# Altium footprint library PcbLibForHigh_Voltage_Sensor.PcbLib: 35 footprints (part 2 of 3)
Each footprint in its own frame and in the unit in brackets; x right, y up, seen from the top. Pads: shape width x height; smd on the part's side, far side on the other; paste and mask are expansions set on the pad; w line width, h text height; cw(c..) or ccw(c..) is an arc to the next point about the centre after c.
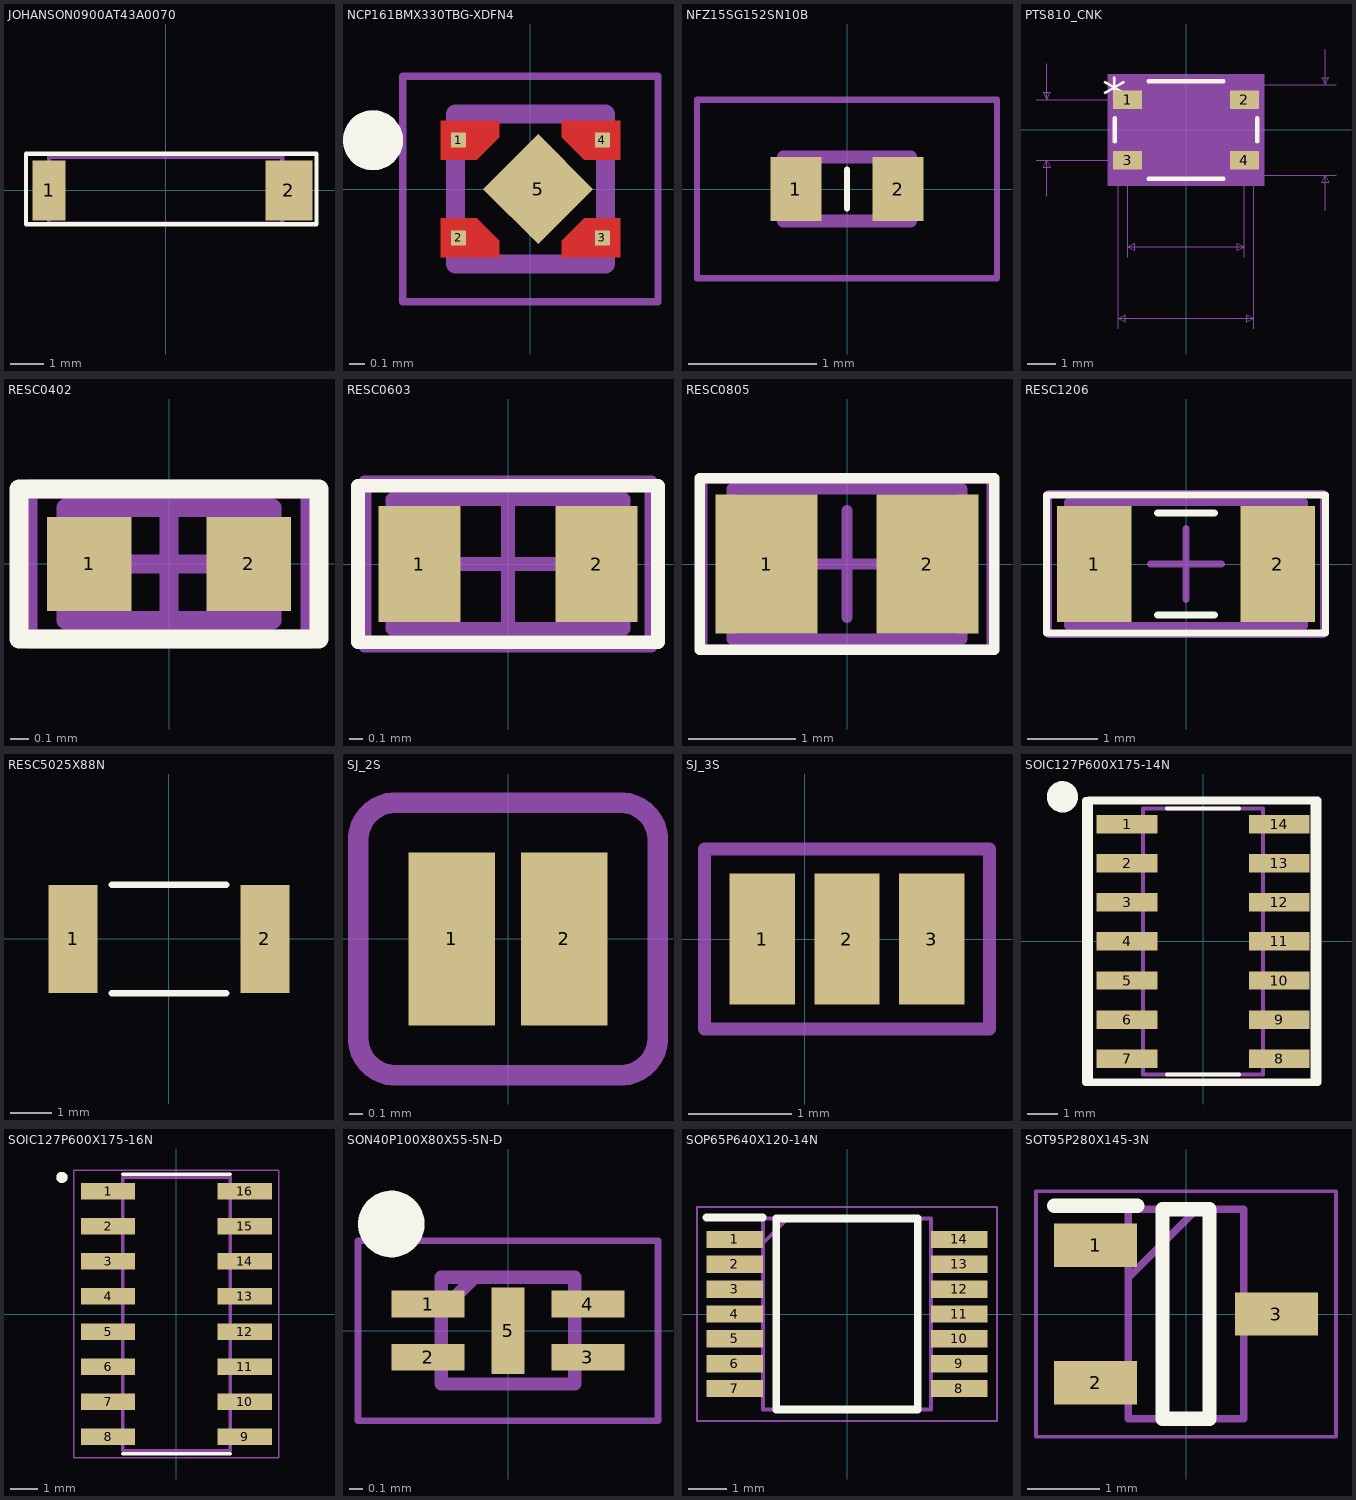
[diagram p1: the footprints below, top view; thin cyan lines are the x and y axes]

## JOHANSON0900AT43A0070 [mm]
pads (2):
  rect 1x1.8 smd: 1(-3.5,0)
  rect 1.4x1.8 smd: 2(3.7,0)
Top Overlay:
  lines w0.127: -4.191,-1.016 4.496,-1.016 4.521,-1.016 4.521,1.092 -4.039,1.092 -4.191,1.092 -4.191,-0.991 -4.191,-1.016
Mechanical 3:
  lines w0.127: -3.5,-1 -3.5,1 3.5,1 3.5,-1 -3.5,-1
3D body: height 1.27, standoff 0, extent 3,-0.9 4.4,0.9
3D body: height 1.27, standoff 0, extent -4,-0.9 -3,0.9
3D body: height 3.81, standoff 0, extent -3.569,-1.069 -3.431,1.069
3D body: height 3.81, standoff 0, extent -3.569,-1.069 3.569,-0.931
3D body: height 3.81, standoff 0, extent 3.431,-1.069 3.569,1.069
3D body: height 3.81, standoff 0, extent -3.569,0.931 3.569,1.069

## NCP161BMX330TBG-XDFN4 [mm] "Linear Voltage Requlator IC 450mA, XDFN4"
pads (5):
  rect 0.1x0.1 smd paste-1 mask+0: 1(-0.48,0.325) 2(-0.48,-0.325) 3(0.48,-0.325) 4(0.48,0.325)
  rect 0.52x0.52 smd rot 135 paste-1 mask+0: 5(0.051,0)
Top Layer:
  region: 0.6,0.195 0.36,0.195 0.21,0.345 0.21,0.455 0.6,0.455
  region: -0.21,0.345 -0.36,0.195 -0.6,0.195 -0.6,0.455 -0.21,0.455
  region: -0.21,-0.345 -0.21,-0.455 -0.6,-0.455 -0.6,-0.195 -0.36,-0.195
  region: 0.6,-0.455 0.21,-0.455 0.21,-0.345 0.36,-0.195 0.6,-0.195
Top Overlay:
  circle w0.2: c-1.05,0.325 r0.1
Top Paste:
  region: -0.21,0.345 -0.36,0.195 -0.6,0.195 -0.6,0.455 -0.21,0.455
  region: 0.6,-0.455 0.21,-0.455 0.21,-0.345 0.36,-0.195 0.6,-0.195
  region: 0.6,0.195 0.36,0.195 0.21,0.345 0.21,0.455 0.6,0.455
  region: -0.21,-0.345 -0.21,-0.455 -0.6,-0.455 -0.6,-0.195 -0.36,-0.195
  region: 0.164,-0.164 -0.164,-0.164 -0.164,0.164 0.164,0.164
Top Solder:
  region: 0.65,0.145 0.36,0.145 0.16,0.345 0.16,0.505 0.65,0.505
  region: -0.16,0.345 -0.36,0.145 -0.65,0.145 -0.65,0.505 -0.16,0.505
  region: -0.16,-0.345 -0.16,-0.505 -0.65,-0.505 -0.65,-0.145 -0.36,-0.145
  region: 0.65,-0.505 0.16,-0.505 0.16,-0.345 0.36,-0.145 0.65,-0.145
  region: 0.4,0 0,-0.4 -0.4,0 0,0.4
Mechanical 13:
  circle w0.2: c-1.05,0.325 r0.1
  lines w0.127: -0.5,-0.5 0.5,-0.5 0.5,0.5 -0.5,0.5 -0.5,-0.5
Mechanical 15:
  lines w0.05: -0.85,-0.75 -0.85,0.75 0.85,0.75 0.85,-0.75 -0.85,-0.75
3D body "NCP161BMX330TBG.STEP": height 0.38, standoff -0.05, extent -0.5,-0.5 0.5,0.5

## NFZ15SG152SN10B [mm]
pads (2):
  rect 0.4x0.5 smd: 1(-0.4,0) 2(0.4,0)
Top Overlay:
  lines w0.05: 0,-0.15 0,0.15
Mechanical 13:
  lines w0.1: -0.5,-0.25 -0.5,0.25 0.5,0.25 0.5,-0.25 -0.5,-0.25
Mechanical 15:
  lines w0.05: -1.175,-0.7 -1.175,0.7 1.175,0.7 1.175,-0.7 -1.175,-0.7
3D body "BLM15HB121SN1D.stp": height 0.65, standoff 0, extent -0.56,-0.25 0.56,0.25

## PTS810_CNK [mm]
pads (4):
  rect 1.041x0.66 smd paste+0 mask+0: 1(-2.075,1.075) 2(2.075,1.075) 3(-2.075,-1.075) 4(2.075,-1.075)
Top Overlay:
  lines w0.152: -2.527,-0.412 -2.527,0.412 ; -1.327,-1.727 1.327,-1.727 ; -1.327,1.727 1.327,1.727 ; 2.527,-0.412 2.527,0.412
  text "*" at -2.972,0.584 h1.27
Mechanical 5:
  region: -2.781,1.981 2.781,1.981 2.781,-1.981 -2.781,-1.981
Mechanical 7:
  lines w0.025: -5.321,-1.075 -2.075,-1.075 -2.075,-4.521 ; -5.321,1.075 -2.075,1.075 ; -4.94,-2.345 -4.94,-1.075 ; -4.94,2.345 -4.94,1.075 ; -2.4,-7.061 -2.4,-1.6 ; 2.075,-4.521 2.075,-1.075 ; 2.4,-7.061 2.4,-1.6 5.321,-1.6 ; 2.4,1.6 5.321,1.6 ; 4.94,-2.87 4.94,-1.6 ; 4.94,2.87 4.94,1.6 ; -4.94,-1.075 -5.067,-1.329 -4.813,-1.329 -4.94,-1.075 ; -4.94,1.075 -5.067,1.329 -4.813,1.329 -4.94,1.075 ; -2.4,-6.68 2.4,-6.68 ; -2.4,-6.68 -2.146,-6.553 -2.146,-6.807 -2.4,-6.68 ; -2.075,-4.14 2.075,-4.14 ; -2.075,-4.14 -1.821,-4.013 -1.821,-4.267 -2.075,-4.14 ; 2.075,-4.14 1.821,-4.013 1.821,-4.267 2.075,-4.14 ; 2.4,-6.68 2.146,-6.553 2.146,-6.807 2.4,-6.68 ; 4.94,-1.6 4.813,-1.854 5.067,-1.854 4.94,-1.6 ; 4.94,1.6 4.813,1.854 5.067,1.854 4.94,1.6
  text "Mounting Padstyle: RX41Y26D0T" at -9.207,-10.49 h1.27
  text "Alt 1 Padstyle: OX60Y90D30P" at -8.572,-12.395 h1.27
  text "Alt 2 Padstyle: OX90Y60D30P" at -8.572,-14.3 h1.27
  text "0.085in/2.15mm" at -9.893,-0.318 h0.64
  text "0.163in/4.15mm" at -2.222,-5.283 h0.64
  text "0.126in/3.2mm" at 5.448,1.283 h0.64
  text "0.189in/4.801mm" at -2.381,-7.823 h0.64
Mechanical 13:
  lines w0.025: -2.4,-0.8 -2.4,0.8 -1.2,1.6 1.2,1.6 2.4,0.8 2.4,-0.8 1.2,-1.6 -1.2,-1.6 -2.4,-0.8
  text "*" at -1.829,-0.178 h1.27
Mechanical 15:
  region: 2.659,-1.854 -2.659,-1.854 -2.659,1.854 2.659,1.854
  lines w0.152: -2.659,-1.854 -2.659,1.854 2.659,1.854 2.659,-1.854 -2.659,-1.854
3D body: height 0.25, standoff 0, extent 0,0 0.254,0.254

## RESC0402 [mm] "Chip Resistor 0402, 2-Leads, Body 1.05x0.54mm, IPC High Density"
height 0.4
pads (2):
  rect 0.45x0.5 smd: 1(-0.425,0) 2(0.425,0)
Top Overlay:
  lines w0.1: -0.8,-0.4 0.8,-0.4 0.8,0.4 -0.8,0.4 -0.8,-0.4
Mechanical 13:
  lines w0.1: -0.55,-0.3 -0.55,0.3 0.55,0.3 0.55,-0.3 -0.55,-0.3
Mechanical 15:
  lines w0.05: -0.75,-0.4 -0.75,0.4 0.75,0.4 0.75,-0.4 -0.75,-0.4
  lines w0.1: -0.3,0 0.3,0 ; 0,-0.3 0,0.3
Mechanical 29:
  lines w0.1: -0.75,-0.4 -0.75,0.4 0.75,0.4 0.75,-0.4 -0.75,-0.4
  text "'.Designator'" at -0.75,-0.2 h0.5
3D body: height 0.4, standoff 0, extent -0.35,-0.3 0.35,0.3
3D body: height 0.4, standoff 0, extent -0.55,-0.3 -0.35,0.3
3D body: height 0.4, standoff 0, extent 0.35,-0.3 0.55,0.3

## RESC0603 [mm] "Chip Resistor 0603, 2-Leads, Body 1.60x0.82mm, IPC High Density"
height 0.6
pads (2):
  rect 0.6x0.85 smd: 1(-0.65,0) 2(0.65,0)
Top Overlay:
  lines w0.1: -1.1,-0.575 -1.1,0.575 1.1,0.575 1.1,-0.575 -1.1,-0.575
Mechanical 13:
  lines w0.1: -0.85,-0.475 0.85,-0.475 0.85,0.475 -0.85,0.475 -0.85,-0.475
Mechanical 15:
  lines w0.05: -1.05,-0.6 1.05,-0.6 1.05,0.6 -1.05,0.6 -1.05,-0.6
  lines w0.1: -0.475,0 0.475,0 ; 0,-0.475 0,0.475
Mechanical 29:
  lines w0.1: -1.05,-0.6 1.05,-0.6 1.05,0.6 -1.05,0.6 -1.05,-0.6
  text "'.Designator'" at -1.05,-0.2 h0.5
3D body: height 0.6, standoff 0, extent 0.57,-0.475 0.85,0.475
3D body: height 0.6, standoff 0, extent -0.85,-0.475 -0.57,0.475
3D body: height 0.6, standoff 0, extent -0.57,-0.475 0.57,0.475

## RESC0805 [mm] "Chip Resistor 0805, 2-Leads, Body 2.00x1.25mm, IPC High Density"
height 0.65
pads (2):
  rect 0.95x1.3 smd: 1(-0.75,0) 2(0.75,0)
Top Overlay:
  lines w0.1: -1.375,-0.8 -1.375,0.8 1.375,0.8 1.375,-0.8 -1.375,-0.8
Mechanical 13:
  lines w0.1: -1.075,-0.7 1.075,-0.7 1.075,0.7 -1.075,0.7 -1.075,-0.7
Mechanical 15:
  lines w0.05: -1.35,-0.8 1.35,-0.8 1.35,0.8 -1.35,0.8 -1.35,-0.8
  lines w0.1: -0.5,0 0.5,0 ; 0,-0.5 0,0.5
Mechanical 29:
  lines w0.1: -1.35,-0.8 1.35,-0.8 1.35,0.8 -1.35,0.8 -1.35,-0.8
  text "'.Designator'" at -1.2,-0.2 h0.5
3D body: height 0.65, standoff 0, extent 0.675,-0.7 1.075,0.7
3D body: height 0.65, standoff 0, extent -1.075,-0.7 -0.675,0.7
3D body: height 0.65, standoff 0, extent -0.675,-0.7 0.675,0.7

## RESC1206 [mm] "Chip Resistor 1206, 2-Leads, Body 3.20x1.60mm, IPC High Density"
height 0.71
pads (2):
  rect 1.05x1.65 smd: 1(-1.3,0) 2(1.3,0)
Top Overlay:
  lines w0.1: -0.4,-0.725 0.4,-0.725 ; -0.4,0.725 0.4,0.725 ; -1.975,-0.975 1.975,-0.975 1.975,0.975 -1.975,0.975 -1.975,-0.975
Mechanical 13:
  lines w0.1: -1.675,-0.875 -1.675,0.875 1.675,0.875 1.675,-0.875 -1.675,-0.875
Mechanical 15:
  lines w0.05: -1.95,-1 -1.95,1 1.95,1 1.95,-1 -1.95,-1
  lines w0.1: -0.5,0 0.5,0 ; 0,-0.5 0,0.5
Mechanical 29:
  lines w0.1: -1.95,-1 -1.95,1 1.95,1 1.95,-1 -1.95,-1
  text "'.Designator'" at -1.825,-0.225 h0.5
3D body: height 0.71, standoff 0, extent -1.175,-0.875 1.175,0.875
3D body: height 0.71, standoff 0, extent -1.675,-0.875 -1.175,0.875
3D body: height 0.71, standoff 0, extent 1.175,-0.875 1.675,0.875

## RESC5025X88N [mil]
pads (2):
  rect 47x104 smd: 1(-92,0) 2(92,0)
Top Overlay:
  lines w6: -55,-52 55,-52 ; -55,52 55,52
3D body "WSL2010R0100FEA.stp": height 25, standoff 0, extent -100,-50 100,50

## SJ_2S [mm] "SJ_2S"
pads (2):
  rect 0.635x1.27 smd: 1(-0.412,0) 2(0.412,0)
Mechanical 22:
  lines w0.152: -1.1,-0.75 ccw(c-0.825,-0.725) -0.8,-1 0.8,-1 ccw(c0.825,-0.725) 1.1,-0.75 1.1,0.75 ccw(c0.825,0.725) 0.8,1 -0.8,1 ccw(c-0.825,0.725) -1.1,0.75 -1.1,-0.75

## SJ_3S [mm]
pads (3):
  rect 0.635x1.27 smd: 1(-0.412,0) 2(0.412,0) 3(1.237,0)
Mechanical 15:
  lines w0.127: -0.975,-0.875 1.8,-0.875 1.8,0.875 -0.975,0.875 -0.975,-0.875

## SOIC127P600X175-14N [mm]
pads (14):
  rect 1.97x0.6 smd: 1(-2.475,3.81) 2(-2.475,2.54) 3(-2.475,1.27) 4(-2.475,0) 5(-2.475,-1.27) 6(-2.475,-2.54) 7(-2.475,-3.81) 8(2.475,-3.81) 9(2.475,-2.54) 10(2.475,-1.27) 11(2.475,0) 12(2.475,1.27) 13(2.475,2.54) 14(2.475,3.81)
Top Overlay:
  circle w0.508: c-4.572,4.699 r0.254
  lines w0.127: -1.17,-4.325 1.17,-4.325 ; -1.17,4.325 1.17,4.325
  lines w0.254: -3.81,-4.578 -3.81,4.572 3.61,4.572 3.61,-4.578 -3.81,-4.578 ; -3.71,-4.575 3.71,-4.575 3.71,4.575 -3.71,4.575 -3.71,-4.575
Dimensions:
  lines w0.127: -1.95,-4.325 1.95,-4.325 ; -1.95,-4.325 -1.95,4.325 ; -1.95,-4.325 1.95,-4.325 ; -1.95,-4.325 -1.95,4.325 ; -1.95,4.325 1.95,4.325 ; -1.95,4.325 1.95,4.325 ; 1.95,-4.325 1.95,4.325 ; 1.95,-4.325 1.95,4.325
Mechanical 16:
  lines w0.05: -3.71,-4.575 3.71,-4.575 3.71,4.575 -3.71,4.575 -3.71,-4.575

## SOIC127P600X175-16N [mm]
pads (16):
  rect 1.97x0.6 smd: 1(-2.475,4.445) 2(-2.475,3.175) 3(-2.475,1.905) 4(-2.475,0.635) 5(-2.475,-0.635) 6(-2.475,-1.905) 7(-2.475,-3.175) 8(-2.475,-4.445) 9(2.475,-4.445) 10(2.475,-3.175) 11(2.475,-1.905) 12(2.475,-0.635) 13(2.475,0.635) 14(2.475,1.905) 15(2.475,3.175) 16(2.475,4.445)
Top Overlay:
  circle w0.2: c-4.145,4.945 r0.1
  lines w0.127: -1.95,-5.065 1.95,-5.065 ; -1.95,5.065 1.95,5.065
Dimensions:
  circle w0.2: c-4.145,4.945 r0.1
  circle w0.2: c-4.145,4.945 r0.1
  lines w0.127: -1.95,-4.95 1.95,-4.95 ; -1.95,-4.95 -1.95,4.95 ; -1.95,-4.95 1.95,-4.95 ; -1.95,-4.95 -1.95,4.95 ; -1.95,4.95 1.95,4.95 ; -1.95,4.95 1.95,4.95 ; 1.95,-4.95 1.95,4.95 ; 1.95,-4.95 1.95,4.95
Mechanical 16:
  lines w0.05: -3.71,-5.2 3.71,-5.2 3.71,5.2 -3.71,5.2 -3.71,-5.2

## SON40P100X80X55-5N-D [mm]
pads (5):
  rect 0.55x0.2 smd: 1(-0.6,0.2) 2(-0.6,-0.2) 3(0.6,-0.2) 4(0.6,0.2)
  rect 0.25x0.65 smd: 5(0,0)
Top Overlay:
  circle w0.25: c-0.875,0.8 r0.125
Mechanical 13:
  lines w0.1: -0.5,0.15 -0.25,0.4 ; -0.5,-0.4 0.5,-0.4 0.5,0.4 -0.5,0.4 -0.5,-0.4
Mechanical 15:
  lines w0.05: -1.125,-0.675 1.125,-0.675 1.125,0.675 -1.125,0.675 -1.125,-0.675
3D body "USBULC6-2N4.stp": height 0.55, standoff 0, extent -0.55,-0.4 0.55,0.4

## SOP65P640X120-14N [mm]
pads (14):
  rect 1.475x0.45 smd: 1(-2.938,1.95) 2(-2.938,1.3) 3(-2.938,0.65) 4(-2.938,0) 5(-2.938,-0.65) 6(-2.938,-1.3) 7(-2.938,-1.95) 8(2.938,-1.95) 9(2.938,-1.3) 10(2.938,-0.65) 11(2.938,0) 12(2.938,0.65) 13(2.938,1.3) 14(2.938,1.95)
Top Overlay:
  lines w0.2: -3.675,2.525 -2.2,2.525 ; -1.85,-2.5 1.85,-2.5 1.85,2.5 -1.85,2.5 -1.85,-2.5
Mechanical 13:
  lines w0.1: -2.2,1.85 -1.55,2.5 ; -2.2,-2.5 2.2,-2.5 2.2,2.5 -2.2,2.5 -2.2,-2.5
Mechanical 15:
  lines w0.05: -3.925,-2.8 3.925,-2.8 3.925,2.8 -3.925,2.8 -3.925,-2.8
3D body "BQ35100PW.stp": height 1.2, standoff 0, extent -3.2,-2.5 3.2,2.5

## SOT95P280X145-3N [mm]
pads (3):
  rect 1.15x0.6 smd: 1(-1.25,0.95) 2(-1.25,-0.95) 3(1.25,0)
Top Overlay:
  lines w0.2: -1.825,1.5 -0.675,1.5 ; -0.325,-1.45 0.325,-1.45 0.325,1.45 -0.325,1.45 -0.325,-1.45
Mechanical 13:
  lines w0.1: -0.8,0.5 0.15,1.45 ; -0.8,-1.45 0.8,-1.45 0.8,1.45 -0.8,1.45 -0.8,-1.45
Mechanical 15:
  lines w0.05: -2.075,-1.7 2.075,-1.7 2.075,1.7 -2.075,1.7 -2.075,-1.7
3D body "SM353LT.stp": height 1.45, standoff 0, extent -1.4,-1.45 1.4,1.45